# EAGLE library part 1PEEK06_S (library con-odu_med)
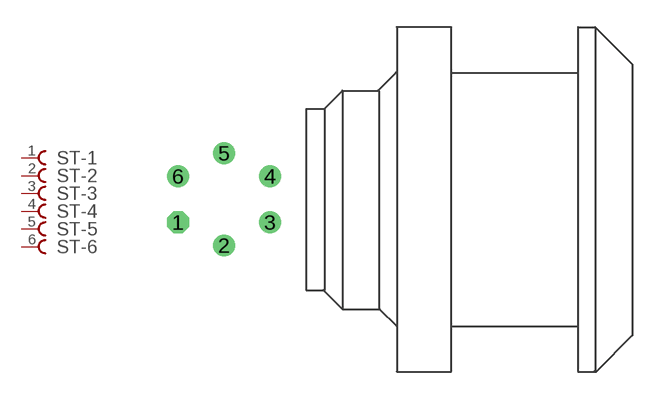
[diagram p11: symbol with the pads of 1PEEK06_S; footprint 1PEEK06_S]

Designator prefix ST; gates -1=KONTAKT -2=KONTAKT -3=KONTAKT -4=KONTAKT -5=KONTAKT -6=KONTAKT

## 1PEEK06_S  [1PEEK06_S]
1  -1:P$1  pas
2  -2:P$1  pas
3  -3:P$1  pas
4  -4:P$1  pas
5  -5:P$1  pas
6  -6:P$1  pas

## Footprint 1PEEK06_S (pad centres in mm)
drill 0.7 octagon: 1 -5.08,-1.27
drill 0.7: 2 -2.54,-2.54; 3 0,-1.27; 4 0,1.27; 5 -2.54,2.54; 6 -5.08,1.27